# Altium schematic symbol library NEC_Ethernet_Interrupter.SchLib: 8 symbols
Pins are listed as number, name and electrical type; pins without a type are passive.

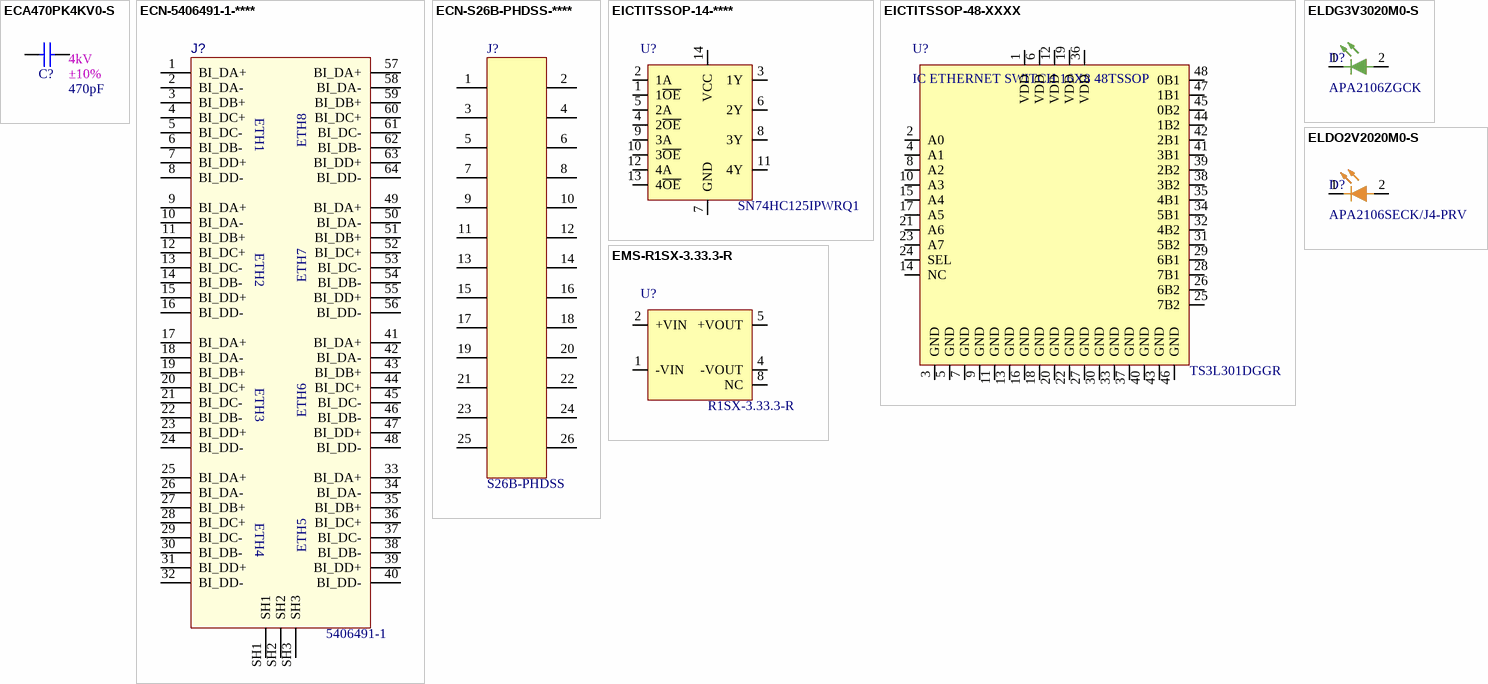
[diagram p0: symbols ECA470PK4KV0-S to EMS-R1SX-3.33.3-R]

## ECA470PK4KV0-S
designator C?, comment value 470pF  1st Auxiliary Field: 4kV  2nd Auxiliary Field: ±10%  (hidden comment: CAP CER 470PF 4KV X7R 2220)
Manufacturer: Knowles Syfer; Manufacturer Part Number: 2220Y4K00471KXT; Internal Part Number: ECA470PK4KV0-S; Vendor Part Number: 1608-1431-1-ND; Component Height (mm): 2.50mm; 3rd Auxiliary Field: ROHS3 Compliant; Temp Co: -55°C ~ 125°C; Vendor Name: Digi-Key; Part Type: CAP CER 470PF 4KV X7R 2220; 4th Auxiliary Field: *
footprint SMDC2220 (Footprint not found)
pins: 1, 2

## ECN-5406491-1-****
designator J?, comment value 5406491-1  (hidden comment: CONN MOD JACK 8P8C R/A SHIELDED)
Manufacturer: TE Connectivity AMP Connectors; Internal Part Number: ECN-5406491-1-****; Vendor Part Number: 5406491-1-ND; 3rd Auxiliary Field: RoHS Compliant; Component Height (mm): 13.63mm; Temp Co: -40°C ~ 85°C; Vendor Name: Digi-Key; 2nd Auxiliary Field: 8 Ports; Part Type: CONN MOD JACK 8P8C R/A SHIELDED; 4th Auxiliary Field: *; 1st Auxiliary Field: 8P8C; Manufacturer Part Number: 5406491-1
footprint TE_5406491-1 (CONN MOD JACK 8P8C R/A SHIELDED)
pins: 1 BI_DA+, 2 BI_DA-, 3 BI_DB+, 4 BI_DC+, 5 BI_DC-, 6 BI_DB-, 7 BI_DD+, 8 BI_DD-, 9 BI_DA+, 10 BI_DA-, 11 BI_DB+, 12 BI_DC+, 13 BI_DC-, 14 BI_DB-, 15 BI_DD+, 16 BI_DD-, 17 BI_DA+, 18 BI_DA-, 19 BI_DB+, 20 BI_DC+, 21 BI_DC-, 22 BI_DB-, 23 BI_DD+, 24 BI_DD-, 25 BI_DA+, 26 BI_DA-, 27 BI_DB+, 28 BI_DC+, 29 BI_DC-, 30 BI_DB-, 31 BI_DD+, 32 BI_DD-, 33 BI_DA+, 34 BI_DA-, 35 BI_DB+, 36 BI_DC+, 37 BI_DC-, 38 BI_DB-, 39 BI_DD+, 40 BI_DD-, 41 BI_DA+, 42 BI_DA-, 43 BI_DB+, 44 BI_DC+, 45 BI_DC-, 46 BI_DB-, 47 BI_DD+, 48 BI_DD-, 49 BI_DA+, 50 BI_DA-, 51 BI_DB+, 52 BI_DC+, 53 BI_DC-, 54 BI_DB-, 55 BI_DD+, 56 BI_DD-, 57 BI_DA+, 58 BI_DA-, 59 BI_DB+, 60 BI_DC+, 61 BI_DC-, 62 BI_DB-, 63 BI_DD+, 64 BI_DD-, SH1, SH2, SH3
text: ETH1; ETH8; ETH2; ETH7; ETH3; ETH6; ETH4; ETH5

## ECN-S26B-PHDSS-****
designator J?, comment value S26B-PHDSS  (hidden comment: CONN HEADER R/A 26POS 2MM)
Vendor Part Number: 455-1352-ND; Manufacturer: JST Sales America Inc.; Internal Part Number: ECN-S26B-PHDSS-****; 2nd Auxiliary Field: 2.00mm; 3rd Auxiliary Field: RoHS Compliant; Vendor Name: Digi-Key; Component Height (mm): 5.00mm; Temp Co: -25°C ~ 85°C; Part Type: CONN HEADER R/A 26POS 2MM; 1st Auxiliary Field: 26POS; 4th Auxiliary Field: *; Manufacturer Part Number: S26B-PHDSS
footprint JST_S26B-PHDSS (CONN HEADER R/A 26POS 2MM)
pins: 1, 2, 3, 4, 5, 6, 7, 8, 9, 10, 11, 12, 13, 14, 15, 16, 17, 18, 19, 20, 21, 22, 23, 24, 25, 26

## EICTITSSOP-14-****
designator U?, comment value SN74HC125IPWRQ1  (hidden comment: IC BUFFER NON-INVERT 6V 14TSSOP)
Internal Part Number: EICTITSSOP-14-****; Manufacturer: Texas Instruments; Vendor Part Number: SN74HC125IPWRQ1-ND; 1st Auxiliary Field: 2V ~ 6V; 2nd Auxiliary Field: 7.8mA; 3rd Auxiliary Field: ROHS3 Compliant; Component Height (mm): 1.2(mm); Temp Co: -40°C ~ 85°C; Vendor Name: Digi-Key; 4th Auxiliary Field: *; Manufacturer Part Number: SN74HC125IPWRQ1; Part Type: IC BUFFER NON-INVERT 6V 14TSSOP
footprint SOP65P706X120-14N (Footprint not found)
pins: 1 1~{OE} , 2 1A, 3 1Y, 4 2~{OE}, 5 2A, 6 2Y, 7 GND, 8 3Y, 9 3A, 10 3~{OE}, 11 4Y, 12 4A, 13 4~{OE}, 14 VCC

## EICTITSSOP-48-XXXX
designator U?, comment IC ETHERNET SWITCH 16X8 48TSSOP  value TS3L301DGGR
Internal Part Number: EICTITSSOP-48-XXXX; Manufacturer Name: Texas Instruments; Vendor Part Number: 296-17533-1-ND; 1st Auxiliary field: 3V ~ 3.6V; 2nd Auxiliary field: 8Ohm; 3rd Auxiliary field: ROHS3 Compliant; 4th Auxiliary field: 900MHz; Component Height (mm): 1.2mm; Temp Co: -40°C ~ 85°C (TA); Vendor Name: Digi-Key; Manufacturer Part Number: TS3L301DGGR; Part  Type: IC ETHERNET SWITCH 16X8 48TSSOP
footprint TSSOP50P810X120-48N (Footprint not found)
pins: 1 VDD, 2 A0, 3 GND, 4 A1, 5 GND, 6 VDD, 7 GND, 8 A2, 9 GND, 10 A3, 11 GND, 12 VDD, 13 GND, 14 NC, 15 A4, 16 GND, 17 A5, 18 GND, 19 VDD, 20 GND, 21 A6, 22 GND, 23 A7, 24 SEL, 25 7B2, 26 6B2, 27 GND, 28 7B1, 29 6B1, 30 GND, 31 5B2, 32 4B2, 33 GND, 34 5B1, 35 4B1, 36 VDD, 37 GND, 38 3B2, 39 2B2, 40 GND, 41 3B1, 42 2B1, 43 GND, 44 1B2, 45 0B2, 46 GND, 47 1B1, 48 0B1

## ELDG3V3020M0-S
designator D?, comment value APA2106ZGCK  (hidden comment: LED GREEN CLEAR SMD R/A)
Manufacturer: Kingbright; Vendor Part Number: 754-1780-1-ND; Internal Part Number: ELEDG3V3020MA-S; 1st Auxiliary Field: 3.3V; 2nd Auxiliary Field: 20mA; Vendor Name: Digi-Key; Component Height (mm): 0.60 mm; Manufacturer Part Number: APA2106ZGCK; 3rd Auxiliary Field: *; 4th Auxiliary Field: *; Part Type: LED GREEN CLEAR SMD R/A; Temp Co: *
footprint LED_APA2106SECK/J4-PRV (LED ORANGE CLEAR SMD R/A)
pins: 1 K, 2 A

## ELDO2V2020M0-S
designator D?, comment value APA2106SECK/J4-PRV  (hidden comment: LED ORANGE CLEAR SMD R/A)
Manufacturer: Kingbright; Vendor Part Number: 754-1777-1-ND; Internal Part Number: ELD2V2020M0-S; 1st Auxiliary Field: 2.2V; 2nd Auxiliary Field: 20mA; Temp Co: -40°C To +85°C; Vendor Name: Digi-Key; Component Height (mm): 0.60 mm; Manufacturer Part Number: APA2106SECK/J4-PRV; 3rd Auxiliary Field: *; 4th Auxiliary Field: *; Part Type: LED ORANGE CLEAR SMD R/A
footprint LED_APA2106SECK/J4-PRV (LED ORANGE CLEAR SMD R/A)
pins: 1 K, 2 A

## EMS-R1SX-3.33.3-R
designator U?, comment value R1SX-3.33.3-R  (hidden comment: DC DC CONVERTER 3.3V 1W)
Internal Part Number: EMS-R1SX-3.33.3-R; Manufacturer: Recom Power; Vendor Part Number: 945-3053-1-ND; 2nd Auxiliary Field: 303mA; 3rd Auxiliary Field: ROHS3 Compliant; Component Height (mm): 5.8(mm); Temp Co: -40°C ~ 100°C; Vendor Name: Digi-Key; 1st Auxiliary Field: 3.3V; 4th Auxiliary Field: *; Manufacturer Part Number: R1SX-3.33.3-R; Part Type: DC DC CONVERTER 3.3V 1W
footprint Recom_R1SX-3.33.3-R (Footprint not found)
pins: 1 -VIN, 2 +VIN, 4 -VOUT, 5 +VOUT, 8 NC